# Altium footprint library XTAL-RD300-H800-W110.PcbLib: 1 footprints
Each footprint in its own frame and in the unit in brackets; x right, y up, seen from the top. Pads: shape width x height; smd on the part's side, far side on the other; paste and mask are expansions set on the pad; w line width, h text height; cw(c..) or ccw(c..) is an arc to the next point about the centre after c.
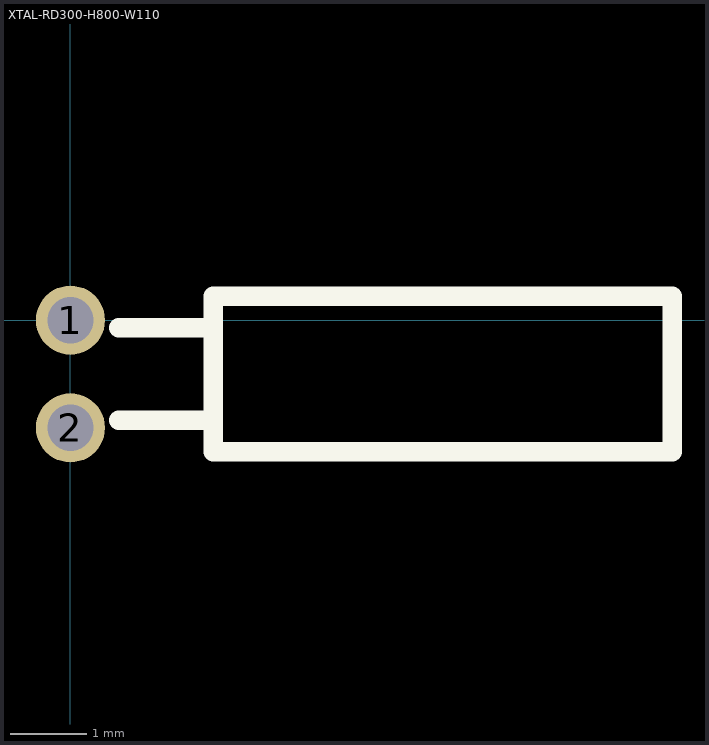
[diagram p0: the footprint, top view; thin cyan lines are the x and y axes]

## XTAL-RD300-H800-W110 [mm]
height 8
pads (2):
  round 0.9 hole 0.6: 1(0,0) 2(0,-1.4)
Top Overlay:
  lines w0.254: 0.63,-1.3 1.86,-1.3 ; 0.63,-0.1 1.86,-0.1 ; 1.86,-1.71 1.86,0.31 7.83,0.31 7.83,-1.71 1.86,-1.71